# Altium schematic symbol library IR2101SPBF.SchLib: 2 symbols
Pins are listed as number, name and electrical type; pins without a type are passive.

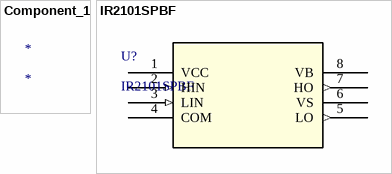
[diagram p0: symbols Component_1 to IR2101SPBF]

## Component_1
designator *

## IR2101SPBF
designator U?
No Description Available; Mfr_Name: Infineon; Copyright: Copyright (C) 2021 Ultra Librarian. All rights reserved.; Manufacturer_Part_Number: IR2101SPBF; RefDes: RefDes; Type: DEV
footprint SO8N_INF
pins: 1 VCC (power), 2 HIN (in), 3 LIN (in), 4 COM, 5 LO (out), 6 VS (power), 7 HO (out), 8 VB (power)